# Altium footprint library footprints.PcbLib: 160 footprints (part 1 of 10)
Each footprint in its own frame and in the unit in brackets; x right, y up, seen from the top. Pads: shape width x height; smd on the part's side, far side on the other; paste and mask are expansions set on the pad; w line width, h text height; cw(c..) or ccw(c..) is an arc to the next point about the centre after c.
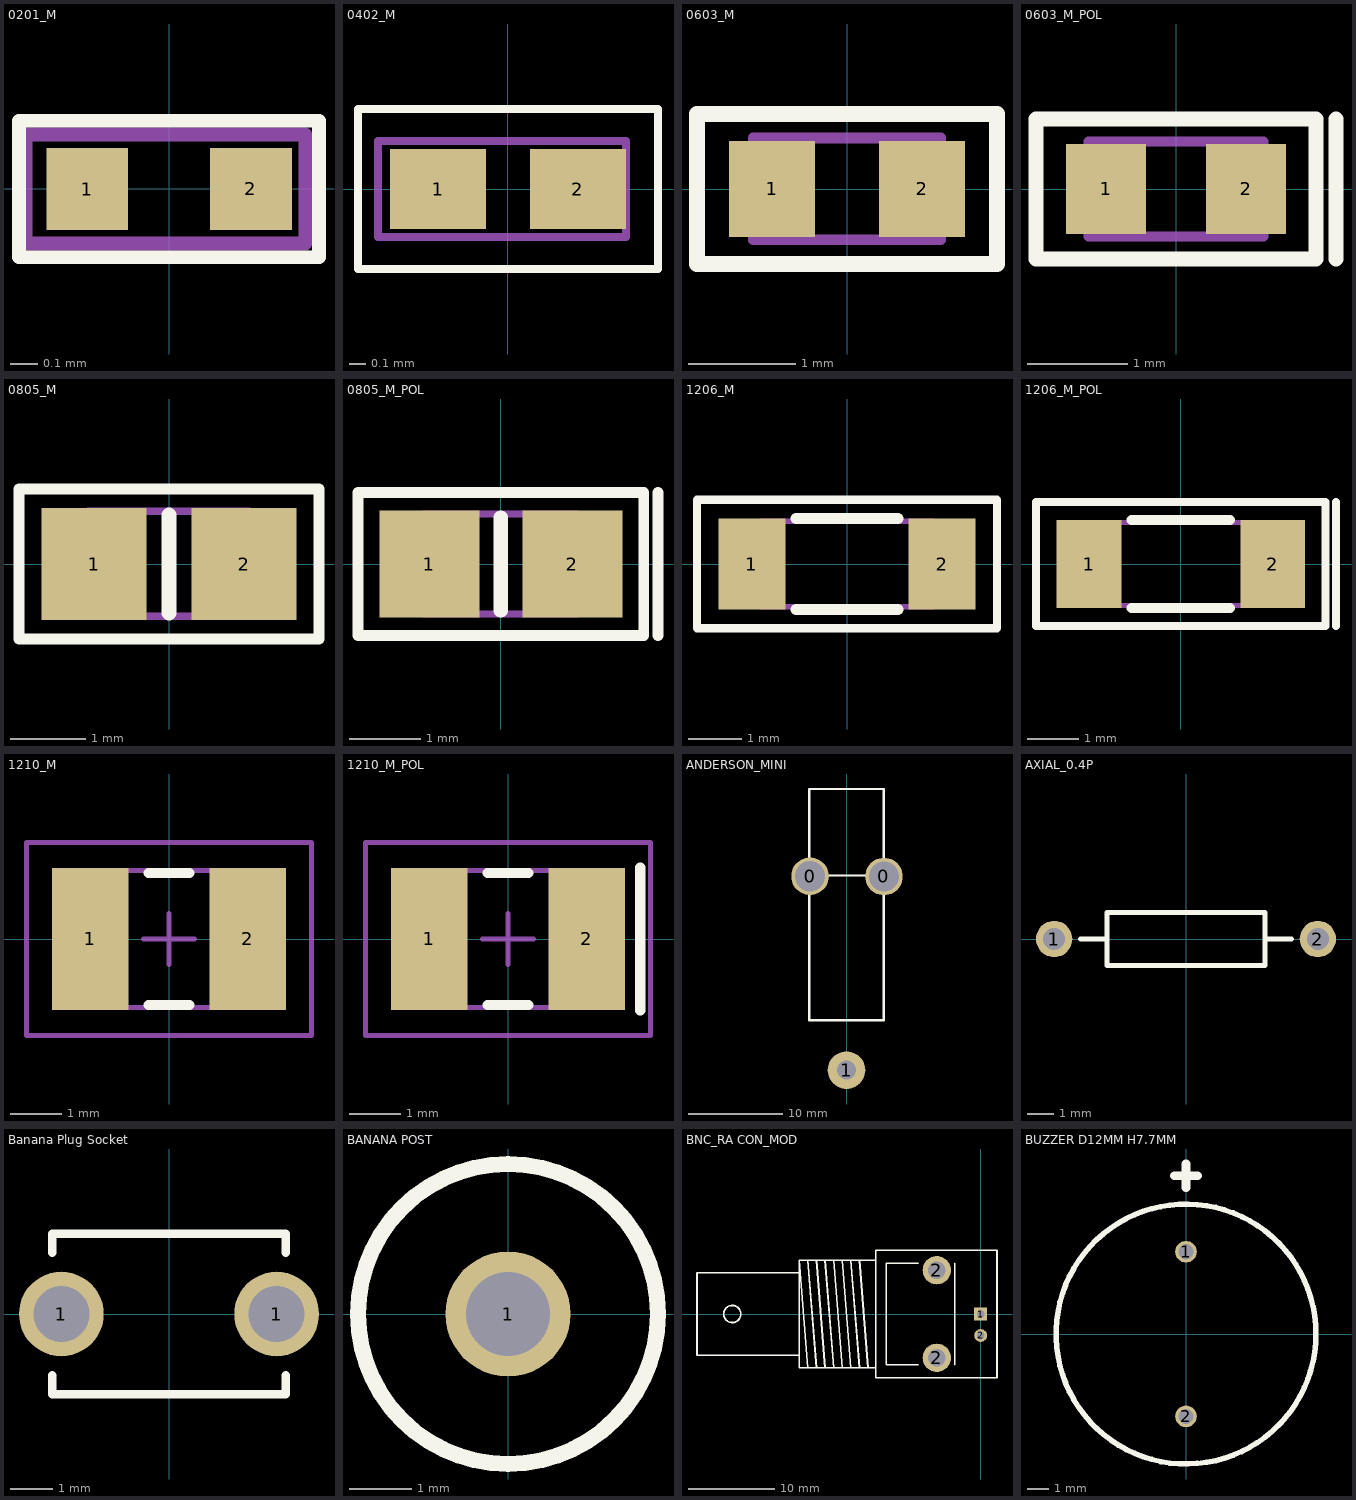
[diagram p0: the footprints below, top view; thin cyan lines are the x and y axes]

## 0201_M [mm]
pads (2):
  rect 0.3x0.3 smd: 1(-0.3,0) 2(0.3,0)
Top Overlay:
  lines w0.05: -0.55,-0.25 0.55,-0.25 0.55,0.25 -0.55,0.25
  lines w0.051: -0.55,-0.25 -0.55,0.25
Mechanical 13:
  lines w0.05: -0.525,-0.2 -0.525,0.2 0.5,0.2 0.5,-0.2 -0.525,-0.2
3D body: height 0.3, standoff 0, extent -0.3,-0.15 0.3,0.15

## 0402_M [mm]
pads (2):
  rect 0.6x0.5 smd: 1(-0.437,0) 2(0.437,0)
Top Overlay:
  lines w0.05: -0.937,-0.5 0.938,-0.5 0.938,0.5 -0.937,0.5
  lines w0.051: -0.937,-0.5 -0.937,0.5
Mechanical 13:
  lines w0.05: -0.812,-0.3 0.738,-0.3 0.738,0.3 -0.812,0.3 -0.812,-0.3
3D body: height 0.6, standoff 0, extent -0.5,-0.237 0.5,0.263

## 0603_M [mm] "Passive Component, Body 1.6x0.8mm, IPC Low Density"
height 1.3
pads (2):
  rect 0.8x0.9 smd: 1(-0.7,0) 2(0.7,0)
Top Overlay:
  lines w0.152: -1.4,-0.7 -1.4,0 -1.4,0.7 1.4,0.7 1.4,-0.7 -1.4,-0.7
Mechanical 13:
  lines w0.1: -0.875,-0.475 0.875,-0.475 0.875,0.475 -0.875,0.475 -0.875,-0.475
3D body: height 0.9, standoff 0, extent -0.8,-0.4 0.8,0.4

## 0603_M_POL [mm] "Passive Component, Body 1.6x0.8mm, IPC Low Density, Polarised"
height 1.3
pads (2):
  rect 0.8x0.9 smd: 1(-0.7,0) 2(0.7,0)
Top Overlay:
  lines w0.152: 1.6,-0.7 1.6,0 1.6,0.7 ; -1.4,-0.7 -1.4,0 -1.4,0.7 1.4,0.7 1.4,-0.7 -1.4,-0.7
Mechanical 13:
  lines w0.1: -0.875,-0.475 0.875,-0.475 0.875,0.475 -0.875,0.475 -0.875,-0.475
3D body: height 1.3, standoff 0, extent -0.875,-0.475 0.875,0.475

## 0805_M [mm] "Passive Component, Body 2.0x1.2mm, IPC Low Density"
height 0.7
pads (2):
  rect 1.4x1.5 smd: 1(-1,0) 2(1,0)
Top Overlay:
  lines w0.152: -2,-1 2,-1 2,1 -1.8,1 -2,1 -2,-1
  lines w0.2: 0,-0.65 0,0.65
Mechanical 13:
  lines w0.1: -1.075,-0.7 -1.075,0.7 1.075,0.7 1.075,-0.7 -1.075,-0.7
3D body: height 1.2, standoff 0, extent -1,-0.625 1,0.625

## 0805_M_POL [mm] "Passive Component, Body 2.0x1.2mm, IPC Low Density, polarised"
height 0.7
pads (2):
  rect 1.4x1.5 smd: 1(-1,0) 2(1,0)
Top Overlay:
  lines w0.152: 2.2,-1 2.2,1 ; -2,-1 -2,1 -1.8,1 2,1 2,-1 -2,-1
  lines w0.2: 0,-0.65 0,0.65
Mechanical 13:
  lines w0.1: -1.075,-0.7 1.075,-0.7 1.075,0.7 -1.075,0.7 -1.075,-0.7
3D body: height 0.7, standoff 0, extent -1.075,-0.7 1.075,0.7

## 1206_M [mm] "Passive Component, Body 3.2x1.6mm, IPC Low Density"
pads (2):
  rect 1.25x1.7 smd: 1(-1.775,0) 2(1.775,0)
Top Overlay:
  lines w0.152: -2.8,-1.2 2.8,-1.2 2.8,1.2 -2.5,1.2 -2.8,1.2 -2.8,-1.2
  lines w0.2: -0.95,-0.85 0.95,-0.85 ; -0.95,0.85 0.95,0.85
Mechanical 13:
  lines w0.1: -1.6,-0.8 -1.6,0.8 1.6,0.8 1.6,-0.8 -1.6,-0.8
3D body: height 0.7, standoff 0, extent -1.6,-0.8 1.6,0.8

## 1206_M_POL [mm] "Passive Component, Body 3.2x1.6mm, IPC Low Density, polarised"
pads (2):
  rect 1.25x1.7 smd: 1(-1.775,0) 2(1.775,0)
Top Overlay:
  lines w0.152: 3,-1.2 3,1.2 ; -2.8,-1.2 -2.8,1.2 -2.5,1.2 2.8,1.2 2.8,-1.2 -2.8,-1.2
  lines w0.2: -0.95,-0.85 0.95,-0.85 ; -0.95,0.85 0.95,0.85
Mechanical 13:
  lines w0.1: -1.6,-0.8 1.6,-0.8 1.6,0.8 -1.6,0.8 -1.6,-0.8
3D body: height 0.7, standoff 0, extent -1.6,-0.8 1.6,0.8

## 1210_M [mm] "Chip Capacitor, Body 3.2x2.5mm, IPC Low Density"
height 1.5
pads (2):
  rect 1.5x2.8 smd: 1(-1.55,0) 2(1.55,0)
Top Overlay:
  lines w0.2: -0.4,-1.3 0.4,-1.3 ; -0.4,1.3 0.4,1.3
Mechanical 13:
  lines w0.1: -1.7,-1.35 1.7,-1.35 1.7,1.35 -1.7,1.35 -1.7,-1.35
Mechanical 15:
  lines w0.1: -0.5,0 0.5,0 ; 0,-0.5 0,0.5 ; -2.8,-1.9 2.8,-1.9 2.8,1.9 -2.8,1.9 -2.8,-1.9
3D body: height 1.5, standoff 0, extent -1.7,-1.35 1.7,1.35

## 1210_M_POL [mm] "Chip Capacitor, Body 3.2x2.5mm, IPC Low Density, polarised"
height 1.5
pads (2):
  rect 1.5x2.8 smd: 1(-1.55,0) 2(1.55,0)
Top Overlay:
  lines w0.2: -0.4,-1.3 0.4,-1.3 ; -0.4,1.3 0.4,1.3 ; 2.6,-1.4 2.6,1.4
Mechanical 13:
  lines w0.1: -1.7,-1.35 -1.7,1.35 1.7,1.35 1.7,-1.35 -1.7,-1.35
Mechanical 15:
  lines w0.1: -0.5,0 0.5,0 ; 0,-0.5 0,0.5 ; -2.8,-1.9 -2.8,1.9 2.8,1.9 2.8,-1.9 -2.8,-1.9
3D body: height 1.5, standoff 0, extent -1.7,-1.35 1.7,1.35

## ANDERSON_MINI [mm]
height 10
pads (3):
  round 4 hole 3.2: 0(-3.878,34.221) 0(3.981,34.195)
  round 4 hole 2.032: 1(0,13.589)
Top Overlay:
  lines w0.254: -3.95,33.05 ccw(c-3.95,34.3) -3.95,35.55 ; -3.95,34.3 3.95,34.29 ; 3.95,33.05 cw(c3.95,34.3) 3.95,35.55 ; -3.95,18.9 3.95,18.9 3.95,43.5 -3.95,43.5 -3.95,18.9

## AXIAL_0.4P [mm] "Axial Device, Thru-Hole; 2 Leads; 0.4 in Pin Spacing"
height 2.032
pads (2):
  round 1.4 hole 0.85: 1(-5.08,0) 2(5.08,0)
Top Overlay:
  lines w0.2: -4.064,0 -3.048,0 ; 3.048,0 4.064,0 ; -3.048,-1.016 3.048,-1.016 3.048,1.016 -3.048,1.016 -3.048,-1.016

## Banana Plug Socket [mm]
pads (2):
  round 2 hole 1.32: 1(-2.54,0) 1(2.54,0)
Top Overlay:
  lines w0.2: -2.75,-1.45 -2.75,-1.89 2.75,-1.89 2.75,-1.45 ; -2.75,1.45 -2.75,1.89 2.75,1.89 2.75,1.45

## BANANA POST [mm]
pads (1):
  round 2 hole 1.35: 1(0,0)
Top Overlay:
  circle w0.254: c0,0 r2.4

## BNC_RA CON_MOD [mm] "Connector; BNC Elbow, modified from MiscConn library to remove DRCs"
pads (4):
  rect 1.5x1.5 hole 0.9: 1(0,0)
  round 3.3 hole 2: 2(-5.1,-5.1) 2(-5.1,5.1)
  round 1.5 hole 0.9: 2(0,-2.5)
Top Overlay:
  circle w0.2: c-28.9,0 r1
  lines w0.025: -21.1,-4.8 -21.1,-6.25 -12.2,-6.25 ; -21.1,-4.8 -21.1,4.8 ; -21.1,-4.8 -33,-4.8 -33,4.8 -21.1,4.8 ; -21.1,4.8 -21.1,6.25 -12.2,6.25 ; -12.2,-6.25 -12.2,-7.4 1.9,-7.4 1.9,7.4 -12.2,7.4 -12.2,6.25 ; -12.2,-6.25 -12.2,6.25
  lines w0.2: -20.1,-6.25 -21.1,6.25 ; -20.1,6.25 -19.1,-6.25 ; -19.1,6.25 -18.1,-6.25 ; -18.1,6.25 -17.1,-6.25 ; -17.1,6.25 -16.1,-6.25 ; -16.1,6.25 -15.1,-6.25 ; -15.1,6.25 -14.1,-6.25 ; -14.1,6.25 -13.1,-6.25 ; -7.3,-5.9 -11,-5.9 -11,5.9 -7.3,5.9 ; -3,-5.9 -3,5.9 ; -21.1,-4.8 -21.1,-6.25 -12.2,-6.25 ; -21.1,-4.8 -33,-4.8 -33,4.8 -21.1,4.8 ; -21.1,-4.8 -21.1,4.8 ; -21.1,4.8 -21.1,6.25 ; -21.1,6.25 -12.2,6.25 ; -12.2,-6.25 -12.2,-7.4 1.9,-7.4 1.9,7.4 -12.2,7.4 -12.2,6.25 ; -12.2,-6.25 -12.2,6.25

## BUZZER D12MM H7.7MM [mm]
height 7.7
pads (2):
  round 1 hole 0.7: 1(0,3.8) 2(0,-3.8)
Top Overlay:
  circle w0.254: c0,0 r6
  lines w0.4: -0.55,7.3 0.55,7.3 ; 0,6.75 0,7.85